# EAGLE library part ATSAMD11D (library dadamachines)
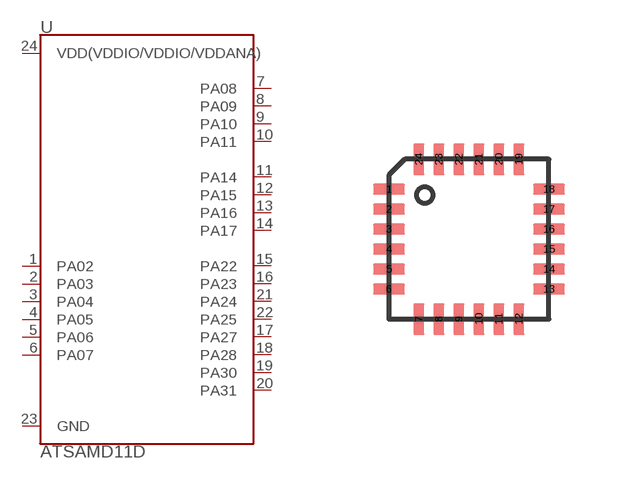
[diagram p3: symbol with the pads of ATSAMD11D; footprint ATSAMD11D]

Designator prefix -

## ATSAMD11D  [ATSAMD11D]
1  PA02
2  PA03
3  PA04
4  PA05
5  PA06
6  PA07
7  PA08
8  PA09
9  PA10
10  PA11
11  PA14
12  PA15
13  PA16
14  PA17
15  PA22
16  PA23
17  PA27
18  PA28
19  PA30
20  PA31
21  PA24
22  PA25
23  GND
24  VDD(VDDIO/VDDIO/VDDANA)

## Footprint ATSAMD11D (pad centres in mm)
smd 0.8 x 0.28: 1 -2,1.25; 2 -2,0.75; 3 -2,0.25; 4 -2,-0.25; 5 -2,-0.75; 6 -2,-1.25; 13 2,-1.25; 14 2,-0.75; 15 2,-0.25; 16 2,0.25; 17 2,0.75; 18 2,1.25
smd 0.28 x 0.8: 7 -1.25,-2; 8 -0.75,-2; 9 -0.25,-2; 10 0.25,-2; 11 0.75,-2; 12 1.25,-2; 19 1.25,2; 20 0.75,2; 21 0.25,2; 22 -0.25,2; 23 -0.75,2; 24 -1.25,2